# EAGLE library part FT232BM (library ftdi)
FT232BM USB-RS232 Wandler FTDI
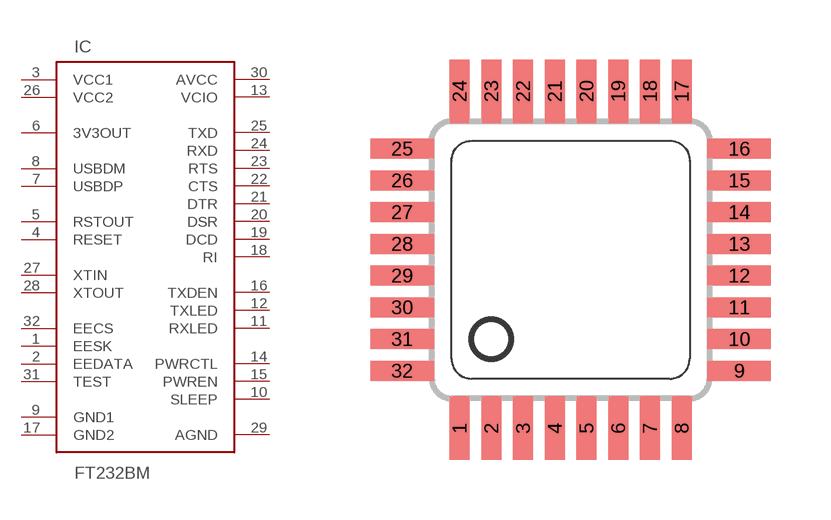
[diagram p0: symbol with the pads of QFP-32; footprint QFP-32]

Designator prefix IC

## FT232BM  [QFP-32]
1  EESK
2  EEDATA
3  VCC1  pwr
4  RESET  in
5  RSTOUT  out
6  3V3OUT  out
7  USBDP
8  USBDM
9  GND1  sup
10  SLEEP  out
11  RXLED  oc
12  TXLED  oc
13  VCIO  in
14  PWRCTL  in
15  PWREN  out
16  TXDEN  out
17  GND2  sup
18  RI  in
19  DCD  in
20  DSR  in
21  DTR  out
22  CTS  in
23  RTS  out
24  RXD  in
25  TXD  out
26  VCC2  pwr
27  XTIN  in
28  XTOUT  out
29  AGND  in
30  AVCC  in
31  TEST  in
32  EECS

## Footprint QFP-32 (pad centres in mm)
Gehäuse QFP-32
smd 0.508 x 1.6: 1 -2.8,-4.25; 2 -2,-4.25; 3 -1.2,-4.25; 4 -0.4,-4.25; 5 0.4,-4.25; 6 1.2,-4.25; 7 2,-4.25; 8 2.8,-4.25; 17 2.8,4.25; 18 2,4.25; 19 1.2,4.25; 20 0.4,4.25; 21 -0.4,4.25; 22 -1.2,4.25; 23 -2,4.25; 24 -2.8,4.25
smd 1.6 x 0.508: 9 4.25,-2.8; 10 4.25,-2; 11 4.25,-1.2; 12 4.25,-0.4; 13 4.25,0.4; 14 4.25,1.2; 15 4.25,2; 16 4.25,2.8; 25 -4.25,2.8; 26 -4.25,2; 27 -4.25,1.2; 28 -4.25,0.4; 29 -4.25,-0.4; 30 -4.25,-1.2; 31 -4.25,-2; 32 -4.25,-2.8